# Altium schematic symbol library Capacitores_SCHLIB.SchLib: 63 symbols (part 1 of 2)
Pins are listed as number, name and electrical type; pins without a type are passive.

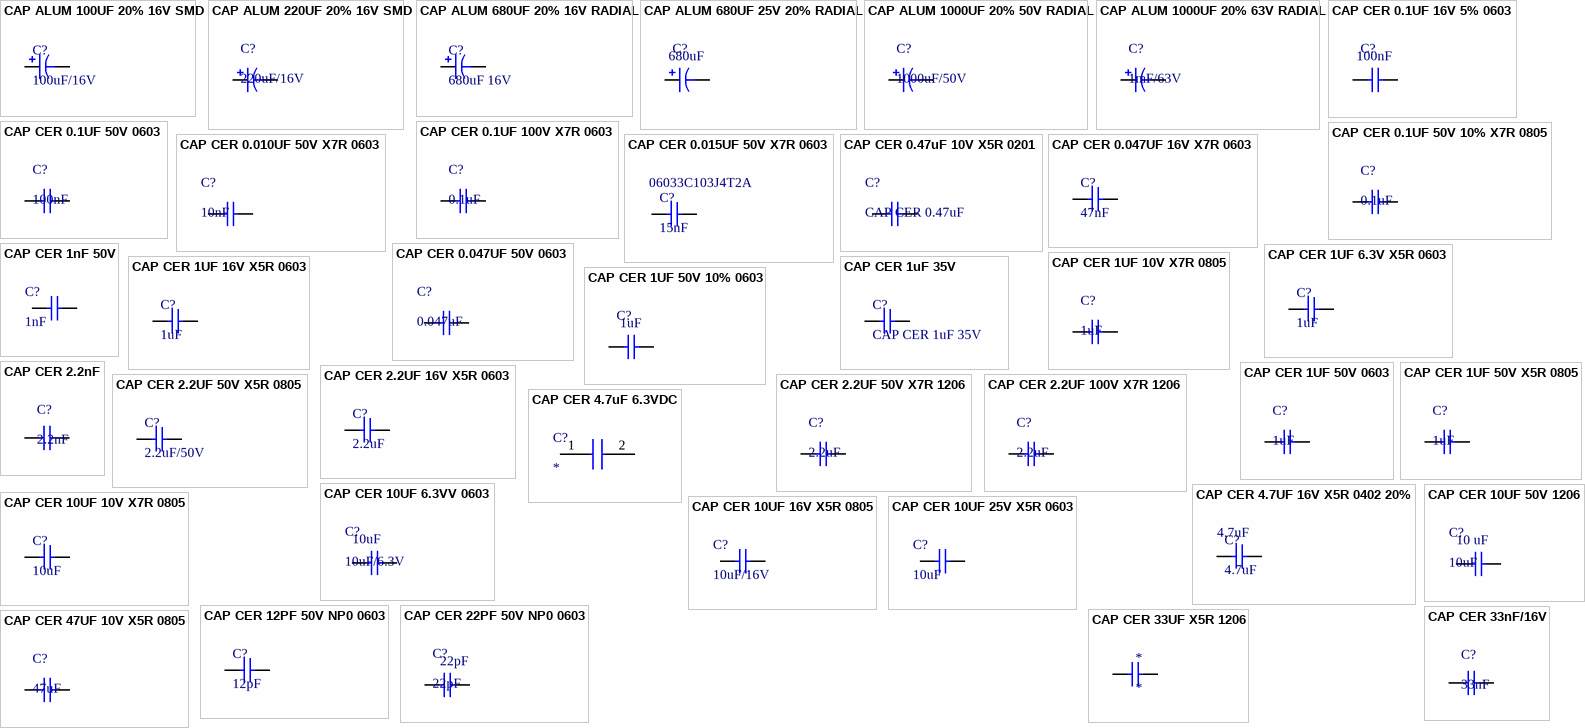
[diagram p0: symbols CAP ALUM 100UF 20% 16V SMD to CAP CER 47UF 10V X5R 0805]

## CAP ALUM 100UF 20% 16V SMD
designator C?, comment 100uF/16V
CAP ALUM 100UF 20% 16V SMD; Manufacturer: United Chemi-Con; Manufacturer Part Number: EMHJ160ADA101MHA0G; Capacitance: 100µF; ESR (Equivalent Series Resistance): 150 mOhm; Lifetime @ Temp.: 2000 Hrs @ 125°C; Ripple Current: 350mA; Surface Mount Land Size: 0.327" L x 0.327" W (8.30mm x 8.30mm); Supplier 1: Digi-Key; RoHS: RoHS Compliant; Category: Capacitors; Stock 1: 1030; Pricing 1: 1=1.04, 10=0.818, 25=0.7504, 50=0.7094, 100=0.6139, 250=0.54568, 500=0.46382 (USD); Packaging: Cut Tape (CT); Part Status: Active; Tolerance: ±20%; Voltage Rating: 16V; Operating Temperature: -40°C ~ 125°C; Polarization: -; Applications: General Purpose; Impedance: -; Lead Spacing: -; Size / Dimension: 0.315" Dia (8.00mm); Height - Seated (Max): 0.406" (10.30mm); Mounting Type: Surface Mount; Package / Case: Radial, Can - SMD; ComponentLink1URL: http://www.chemi-con.co.jp/cgi-bin/CAT_DB/SEARCH/cat_db_al.cgi?e=e&j=p&pdfname=mhj; ComponentLink1Description: http://www.chemi-con.co.jp/cgi-bin/CAT_DB/SEARCH/cat_db_al.cgi?e=e&j=p&pdfname=mhj; Supplier Part Number 1: 565-3635-1-ND
footprint CAP_8x10
pins: 1, 2

## CAP ALUM 220UF 20% 16V SMD
designator C?, comment 220uF/16V
CAP ALUM 220UF 20% 16V SMD; Manufacturer: Nichicon; Manufacturer Part Number: UUR1C221MNL1GS; Capacitance: 220µF; Lifetime @ Temp.: 2000 Hrs @ 85°C; Ripple Current: 215mA; Surface Mount Land Size: 0.327" L x 0.327" W (8.30mm x 8.30mm); Supplier 1: Digi-Key; RoHS: RoHS Compliant; Category: Capacitors; Stock 1: 6008; Pricing 1: 1=0.47, 10=0.329, 25=0.2696, 50=0.23, 100=0.1972, 250=0.16436 (USD); Packaging: Cut Tape (CT); Part Status: Active; Tolerance: ±20%; Voltage Rating: 16V; ESR (Equivalent Series Resistance): -; Operating Temperature: -40°C ~ 85°C; Polarization: -; Applications: General Purpose; Impedance: -; Lead Spacing: -; Size / Dimension: 0.315" Dia (8.00mm); Height - Seated (Max): 0.413" (10.50mm); Mounting Type: Surface Mount; Package / Case: Radial, Can - SMD; ComponentLink1URL: http://nichicon-us.com/english/products/pdfs/e-uur.pdf; ComponentLink1Description: http://nichicon-us.com/english/products/pdfs/e-uur.pdf; Supplier Part Number 1: 493-6215-1-ND
footprint CAP 8x10 (Aluminum Electrolytic Capacitor, Body 8,30x8,30x10,80mm, IPC Medium Density)
pins: 1, 2

## CAP ALUM 680UF 20% 16V RADIAL
designator C?, comment 680uF 16V
CAP ALUM 680UF 20% 16V RADIAL; Manufacturer: United Chemi-Con; Manufacturer Part Number: EKZN160ELL681MH15D; Capacitance: 680µF; Lifetime @ Temp.: 10000 Hrs @ 105°C; Ripple Current: 1.6A; Impedance: 59 mOhm; Supplier 1: Digi-Key; RoHS: RoHS Compliant; Category: Capacitors; Stock 1: 0; Pricing 1: 1000=0.13996 (USD); Packaging: Bulk; Part Status: Active; Tolerance: ±20%; Voltage Rating: 16V; ESR (Equivalent Series Resistance): -; Operating Temperature: -; Polarization: -; Applications: General Purpose; Lead Spacing: 0.138" (3.50mm); Size / Dimension: 0.315" Dia (8.00mm); Height - Seated (Max): 0.650" (16.50mm); Surface Mount Land Size: -; Mounting Type: Through Hole; Package / Case: Radial, Can; ComponentLink1URL: http://www.chemi-con.co.jp/cgi-bin/CAT_DB/SEARCH/cat_db_al.cgi?e=e&j=p&pdfname=kzn; ComponentLink1Description: http://www.chemi-con.co.jp/cgi-bin/CAT_DB/SEARCH/cat_db_al.cgi?e=e&j=p&pdfname=kzn; Supplier Part Number 1: EKZN160ELL681MH15D-ND
footprint RADIAL 8X15MM
pins: 1, 2

## CAP ALUM 680UF 25V 20% RADIAL
designator C?, comment value 680uF  (hidden comment: UHD1E681MPD)
Aluminum Electrolytic Capacitors - Leaded 25volts 680uF 10x20 20% 5LS; Manufacturer: Nichicon; Voltage Rating DC: 25 V; Leakage Current: 170 uA; Case Diameter: 10 mm; Case Length: 20 mm; Dissipation Factor DF: 0.14; Load Life: 4000 h; Ripple Current: 1820 mA; Supplier 1: Mouser; Manufacturer Part Number: UHD1E681MPD; RoHS: RoHS Compliant; Category: Aluminum Electrolytic Capacitors - Leaded; Stock 1: 0; Pricing 1: 1=0.817, 10=0.595, 100=0.319, 500=0.279, 5000=0.212 (AUD); Capacitance: 680 uF; Dimensions: 10 mm Dia. x 20 mm L; Packaging: Bulk; Product: Low Impedance Electrolytic Capacitors; Series: HD; Termination Style: Radial; Tolerance: 20 %; Brand: Nichicon; Lead Spacing: 5 mm; Lead Style: Straight; Maximum Operating Temperature: + 105 C; Product Category: Low Impedance Aluminum Electrolytic Capacitors; Standard Pack Qty: 200; RoHS - Mouser: Y; Minimum Order Quantity: 1; Reeling: False; ComponentLink1URL: http://www.mouser.com/ds/2/293/e-hd-22785.pdf; ComponentLink1Description: http://www.mouser.com/ds/2/293/e-hd-22785.pdf; Supplier Part Number 1: 647-UHD1E681MPD
footprint Radial 13x20mm
footprint Radial 13x20mm (mirror)
pins: 1, 2

## CAP ALUM 1000UF 20% 50V RADIAL
designator C?, comment 1000uF/50V
CAP ALUM 1000UF 20% 50V RADIAL; Manufacturer: Panasonic Electronic Components; Manufacturer Part Number: EEU-FC1H102; Capacitance: 1000µF; Lifetime @ Temp.: 5000 Hrs @ 105°C; Polarization: Polar; Ripple Current: 1.676A @ 120Hz; Impedance: 34 mOhm; Supplier 1: Digi-Key; RoHS: RoHS Compliant; Category: Capacitors; Stock 1: 76023; Pricing 1: 1=1.49, 10=1.172, 25=1.0748, 50=1.016, 100=0.8793, 250=0.7816, 500=0.66436, 1000=0.5862, 2500=0.54712 (USD); Packaging: Bulk; Tolerance: ±20%; Voltage Rating: 50V; ESR (Equivalent Series Resistance): -; Operating Temperature: -55°C ~ 105°C; Applications: Automotive; Lead Spacing: 0.295" (7.50mm); Size / Dimension: 0.630" Dia (16.00mm); Height - Seated (Max): 0.984" (25.00mm); Surface Mount Land Size: -; Mounting Type: Through Hole; Package / Case: Radial, Can; ComponentLink1URL: http://industrial.panasonic.com/www-cgi/jvcr13pz.cgi?E+PZ+3+ABA0022+EEUFC1H102+7+WW; ComponentLink1Description: http://industrial.panasonic.com/www-cgi/jvcr13pz.cgi?E+PZ+3+ABA0022+EEUFC1H102+7+WW; Supplier Part Number 1: P10333-ND
footprint CAP_RAD_16x25
footprint CAP_RAD_16x25_RIGHT1 (CAP_RAD_16x25__RIGHT1)
footprint CAP_RAD_16x25_RIGHT2 (CAP_RAD_16x25__RIGHT2)
pins: 1, 2

## CAP ALUM 1000UF 20% 63V RADIAL
designator C?, comment 1mF/63V
CAP ALUM 1000UF 20% 63V RADIAL; Manufacturer: Nichicon; Manufacturer Part Number: UVR1J102MHD; Capacitance: 1000µF; Lifetime @ Temp.: 2000 Hrs @ 85°C; Ripple Current: 1.3A; Supplier 1: Digi-Key; RoHS: RoHS Compliant; Category: Capacitors; Stock 1: 13776; Pricing 1: 1=0.96, 10=0.759, 25=0.6956, 50=0.6576, 100=0.569, 250=0.5058, 500=0.42994, 1000=0.37935, 2500=0.35406 (USD); Packaging: Bulk; Part Status: Active; Tolerance: ±20%; Voltage Rating: 63V; ESR (Equivalent Series Resistance): -; Operating Temperature: -40°C ~ 85°C; Polarization: -; Applications: General Purpose; Impedance: -; Lead Spacing: 0.295" (7.50mm); Size / Dimension: 0.630" Dia (16.00mm); Height - Seated (Max): 1.063" (27.00mm); Surface Mount Land Size: -; Mounting Type: Through Hole; Package / Case: Radial, Can; ComponentLink1URL: http://nichicon-us.com/english/products/pdfs/e-uvr.pdf; ComponentLink1Description: http://nichicon-us.com/english/products/pdfs/e-uvr.pdf; Supplier Part Number 1: 493-1129-ND
footprint CAP RAD 16x25
footprint CAP RAD 16x25 RIGHT1
footprint CAP RAD 16x25 RIGHT2
pins: 1, 2

## CAP CER 0.1UF 16V 5% 0603
designator C?, comment value 100nF  (hidden comment: VJ0603Y104JXJPW1BC)
Multilayer Ceramic Capacitors MLCC - SMD/SMT 0603 0.1uF 16volts X7R 5%; Manufacturer: Vishay / Vitramon; Type: Ultra Small Commodity MLCCs; Voltage Rating DC: 16 V; Case Height: 0.95 mm; Case Length: 1.6 mm; Case Width: 0.8 mm; Dissipation Factor DF: 3.5; Temperature Coefficient / Code: +/- 15 %; Supplier 1: Mouser; Manufacturer Part Number: VJ0603Y104JXJPW1BC; RoHS: RoHS Compliant; Category: Multilayer Ceramic Capacitors MLCC - SMD/SMT; Stock 1: 111624; Pricing 1: 1=0.089, 50=0.036, 100=0.028, 500=0.025, 1000=0.022, 15000=0.018, 75000=0.016 (AUD); Capacitance: 0.1 uF; Operating Temperature Range: - 55 C to + 125 C; Package / Case: 0603 (1608 metric); Packaging: Reel; Product: General Type MLCCs; Series: VJ W1BC; Termination Style: SMD/SMT; Tolerance: 5 %; Voltage Rating AC: -; Brand: Vishay / Vitramon; Case Code - in: 0603; Case Code - mm: 1608; Dielectric: X7R; Maximum Operating Temperature: + 125 C; Minimum Operating Temperature: - 55 C; Product Category: Ceramic Chip Capacitors; Standard Pack Qty: 15000; RoHS - Mouser: Y; Minimum Order Quantity: 1; Reeling: True; ComponentLink1URL: http://www.mouser.com/ds/2/427/vjw1bcbascomseries-223529.pdf; ComponentLink1Description: http://www.mouser.com/ds/2/427/vjw1bcbascomseries-223529.pdf; Supplier Part Number 1: 77-VJ0603Y104JXJPBC
footprint Capacitor-0603 (Chip Capacitor; Body 1.6 x 0.8 mm (LxW typ))
pins: 1, 2

## CAP CER 0.1UF 50V 10% X7R 0805
designator C?, comment 0.1uF
CAP CER 0.1UF 50V 10% X7R 0805; Manufacturer: Kyocera / AVX; Manufacturer Part Number: 08055C104KAT2A; Capacitance: 100 nF; Supplier 1: Digikey; Stock 1: 4100743; Pricing 1: 1=0.1, 10=0.036, 25=0.026, 50=0.0194, 100=0.0158, 250=0.0132, 500=0.0113, 1000=0.0089 (USD); Case Size/Dimension: 0805; Dielectric: X7R; Tolerance (%): ±10 %; Rated Voltage: 50 V; ComponentLink1URL: https://datasheet.ciiva.com/150/cx7r-150257.pdf; ComponentLink1Description: https://datasheet.ciiva.com/150/cx7r-150257.pdf; ComponentLink2URL: https://datasheet.ciiva.com/150/cx7r-150258.pdf; ComponentLink2Description: https://datasheet.ciiva.com/150/cx7r-150258.pdf; ComponentLink3URL: https://datasheet.ciiva.com/19475/2009691-19475858.pdf; ComponentLink3Description: https://datasheet.ciiva.com/19475/2009691-19475858.pdf; ComponentLink4URL: https://datasheet.ciiva.com/150/cx7r-150259.pdf; ComponentLink4Description: https://datasheet.ciiva.com/150/cx7r-150259.pdf; ComponentLink5URL: https://datasheet.ciiva.com/11786/0900766b802d4698-11786116.pdf; ComponentLink5Description: https://datasheet.ciiva.com/11786/0900766b802d4698-11786116.pdf; ComponentLink6URL: https://datasheet.ciiva.com/16199/cx7r-16199014.pdf; ComponentLink6Description: https://datasheet.ciiva.com/16199/cx7r-16199014.pdf; ComponentLink7URL: https://datasheet.ciiva.com/16536/cx7r-16536873.pdf; ComponentLink7Description: https://datasheet.ciiva.com/16536/cx7r-16536873.pdf; ComponentLink8URL: https://datasheet.ciiva.com/16536/cx7r-16536875.pdf; ComponentLink8Description: https://datasheet.ciiva.com/16536/cx7r-16536875.pdf; ComponentLink9URL: https://datasheet.ciiva.com/25901/cx7r-25901179.pdf; ComponentLink9Description: https://datasheet.ciiva.com/25901/cx7r-25901179.pdf; ComponentLink10URL: https://datasheet.ciiva.com/11504/cx7r-11504044.pdf; ComponentLink10Description: https://datasheet.ciiva.com/11504/cx7r-11504044.pdf; ComponentLink11URL: https://datasheet.ciiva.com/2988/cx7r-2988014.pdf; ComponentLink11Description: https://datasheet.ciiva.com/2988/cx7r-2988014.pdf; ComponentLink12URL: https://datasheet.ciiva.com/5416/cx7r-5416959.pdf; ComponentLink12Description: https://datasheet.ciiva.com/5416/cx7r-5416959.pdf; ComponentLink13URL: https://datasheet.ciiva.com/7812/cx7r-7812079.pdf; ComponentLink13Description: https://datasheet.ciiva.com/7812/cx7r-7812079.pdf; Supplier Part Number 1: 478-1395-1-ND
footprint CAP 0805 M (Chip Capacitor, 2-Leads, Body 2,00x1,25mm, IPC Low Density)
pins: 1, 2

## CAP CER 0.1UF 50V 0603
designator C?, comment 100nF
Multilayer Ceramic Capacitors MLCC - SMD/SMT 100nF 50Volts X7R 0603 STD; Manufacturer: Murata Electronics North America; Manufacturer Part Number: GRM188R71H104KA93D; Capacitance: 0.10µF; Tolerance: ±10%; Voltage - Rated: 50V; Supplier 1: Digi-Key; RoHS: RoHS Compliant; Category: Capacitors; Stock 1: 6082661; Pricing 1: 1=0.1, 10=0.04, 50=0.0214, 100=0.0182, 250=0.01484, 500=0.0127, 1000=0.0099 (USD); Packaging: Cut Tape (CT); Temperature Coefficient: X7R; Mounting Type: Surface Mount, MLCC; Operating Temperature: -55°C ~ 125°C; Applications: General Purpose; Ratings: -; Package / Case: 0603 (1608 Metric); Size / Dimension: 0.063" L x 0.031" W (1.60mm x 0.80mm); Height - Seated (Max): -; Thickness (Max): 0.035" (0.90mm); Lead Spacing: -; Features: -; Lead Style: -; ComponentLink1URL: http://www.murata.com/~/media/webrenewal/support/library/catalog/products/capacitor/mlcc/c02e.pdf; ComponentLink1Description: http://www.murata.com/~/media/webrenewal/support/library/catalog/products/capacitor/mlcc/c02e.pdf; Supplier Part Number 1: 100nF
footprint Capacitor-0603 (Chip Capacitor; Body 1.6 x 0.8 mm (LxW typ))
footprint SMD-0402C
pins: 1, 2

## CAP CER 0.1UF 100V X7R 0603
designator C?, comment 0.1uF
CAP CER 0.1UF 100V X7R 0603; Manufacturer: Murata Electronics North America; Manufacturer Part Number: GRJ188R72A104KE11D; Capacitance: 0.10µF; Tolerance: ±10%; Supplier 1: Digi-Key; RoHS: RoHS Compliant; Category: Capacitors; Stock 1: 18811; Pricing 1: 1=0.2, 10=0.135, 50=0.082, 100=0.0689, 250=0.05576, 500=0.0492, 1000=0.04182 (USD); Packaging: Cut Tape (CT); Part Status: Active; Voltage - Rated: 100V; Temperature Coefficient: X7R; Operating Temperature: -55°C ~ 125°C; Features: Soft Termination; Ratings: -; Applications: Boardflex Sensitive; Failure Rate: *; Mounting Type: Surface Mount, MLCC; Package / Case: 0603 (1608 Metric); Size / Dimension: 0.063" L x 0.031" W (1.60mm x 0.80mm); Height - Seated (Max): -; Thickness (Max): 0.035" (0.90mm); Lead Spacing: -; Lead Style: -; ComponentLink1URL: http://www.murata.com/~/media/webrenewal/support/library/catalog/products/capacitor/mlcc/c02e.pdf; ComponentLink1Description: http://www.murata.com/~/media/webrenewal/support/library/catalog/products/capacitor/mlcc/c02e.pdf; Supplier Part Number 1: 490-10901-1-ND
footprint CAP 0603 N (Chip Capacitor, 2-Leads, Body 1,60x0,80mm, IPC Medium Density)
footprint SMD-0402C
pins: 1, 2

## CAP CER 0.010UF 50V X7R 0603
designator C?, comment 10nF
CAP CER 0.010UF 50V X7R 0603; Manufacturer: AVX; Manufacturer Part Number: 06035F103K4T2A; Unit: pcs; SuppliedAmount: 0; MinAmount: 20000; Multiples: 4000; Capacitor type: ceramic; Dielectric: X8R; Tolerance: ±10%; Case - inch: 0603; Case - mm: 1608; Capacitor application: automobile electronics; Conform to the norm: AEC-Q200; Supplier 1: TME; Category: 0603 MLCC SMD Capacitors; Stock 1: 0; Pricing 1: 20000=0.01042 (USD); Weight: 0.035; Price Type: NET; Capacitance: 10nF; Operating voltage: 50V; Mounting: SMD; Operating temperature: -55...150°C; ComponentLink1URL: http://www.tme.eu/en/details/06035f103k4t2a/0603-mlcc-smd-capacitors/avx/; ComponentLink1Description: http://www.tme.eu/en/details/06035f103k4t2a/0603-mlcc-smd-capacitors/avx/
footprint Capacitor-0603 (Chip Capacitor; Body 1.6 x 0.8 mm (LxW typ))
footprint SMD-0402C
pins: 1, 2

## CAP CER 0.015UF 50V X7R 0603
designator C?, comment 15nF  Supplier Part Number 2: 06033C103J4T2A
CAP CER 0.015UF 50V X7R 0603; Manufacturer: Murata Electronics North America; Manufacturer Part Number: GRM188R71H153KA01D; Capacitance: 0.015µF; Tolerance: ±10%; Unit: pcs; SuppliedAmount: 0; MinAmount: 4000; Capacitor type: ceramic; Operating voltage: 25V; Case - inch: 0603; Case - mm: 1608; Capacitor application: automobile electronics; Conform to the norm: AEC-Q200; Supplier 1: Digi-Key; RoHS: RoHS Compliant; Category: Capacitors; Stock 1: 75609; Pricing 1: 1=0.1, 10=0.043, 50=0.0234, 100=0.0198, 250=0.0162, 500=0.01386, 1000=0.0108 (USD); Packaging: Cut Tape (CT); Part Status: Active; Voltage - Rated: 50V; Temperature Coefficient: X7R; Operating Temperature: -55°C ~ 125°C; Features: -; Ratings: -; Applications: General Purpose; Failure Rate: *; Mounting Type: Surface Mount, MLCC; Package / Case: 0603 (1608 Metric); Size / Dimension: 0.063" L x 0.031" W (1.60mm x 0.80mm); Height - Seated (Max): -; Thickness (Max): 0.035" (0.90mm); Lead Spacing: -; Lead Style: -; ComponentLink1URL: http://www.murata.com/~/media/webrenewal/support/library/catalog/products/capacitor/mlcc/c02e.pdf; ComponentLink1Description: http://www.murata.com/~/media/webrenewal/support/library/catalog/products/capacitor/mlcc/c02e.pdf; Supplier Part Number 1: 490-1514-1-ND; Supplier 2: TME; Stock 2: 0; Pricing 2: 4000=0.00485 (USD); Weight: 0.035; Multiples: 4000; Price Type: NET; Dielectric: X7R; Mounting: SMD; ComponentLink2URL: http://www.tme.eu/en/details/06033c103j4t2a/0603-mlcc-smd-capacitors/avx/; ComponentLink2Description: http://www.tme.eu/en/details/06033c103j4t2a/0603-mlcc-smd-capacitors/avx/
footprint Capacitor-0603 (Chip Capacitor; Body 1.6 x 0.8 mm (LxW typ))
footprint SMD-0402C
pins: 1, 2

## CAP CER 0.47uF 10V X5R 0201
designator C?, comment CAP CER 0.47uF
C0603X5R1A474M030BC; Manufacturer: TDK Corporation; Capacitance: 0.47µF; Tolerance: ±20%; Voltage - Rated: 10V; Temperature Coefficient: X5R; Supplier 1: Digi-Key; Manufacturer Part Number: C0603X5R1A474M030BC; RoHS: RoHS Compliant; Category: Capacitors; Stock 1: 630111; Pricing 1: 1=0.22, 10=0.149, 100=0.0756, 250=0.0612, 500=0.054, 1000=0.0459, 5000=0.0387 (USD); Packaging: Cut Tape (CT); Part Status: Active; Operating Temperature: -55°C ~ 85°C; Features: Low ESL; Ratings: -; Applications: General Purpose; Failure Rate: -; Mounting Type: Surface Mount, MLCC; Package / Case: 0201 (0603 Metric); Size / Dimension: 0.024" L x 0.012" W (0.60mm x 0.30mm); Height - Seated (Max): -; Thickness (Max): 0.013" (0.33mm); Lead Spacing: -; Lead Style: -; ComponentLink1URL: https://product.tdk.com/info/en/catalog/datasheets/mlcc_commercial_general_en.pdf; ComponentLink1Description: https://product.tdk.com/info/en/catalog/datasheets/mlcc_commercial_general_en.pdf; Supplier Part Number 1: 445-13666-1-ND
footprint Capacitor-0603 (Chip Capacitor; Body 1.6 x 0.8 mm (LxW typ))
footprint SMD-0402C
pins: 1, 2

## CAP CER 0.047UF 16V X7R 0603
designator C?, comment 47nF
CAP CER 0.047UF 16V X7R 0603; Manufacturer: Wurth Electronics Inc; Manufacturer Part Number: 885012206044; Capacitance: 0.047µF; Tolerance: ±10%; Supplier 1: Digi-Key; RoHS: RoHS Compliant; Category: Capacitors; Stock 1: 3069; Pricing 1: 1=0.1, 50=0.0468, 100=0.0367, 250=0.0324, 500=0.02952, 1000=0.02736 (USD); Packaging: Cut Tape (CT); Voltage - Rated: 16V; Temperature Coefficient: X7R; Mounting Type: Surface Mount, MLCC; Operating Temperature: -55°C ~ 125°C; Applications: General Purpose; Ratings: -; Package / Case: 0603 (1608 Metric); Size / Dimension: 0.063" L x 0.031" W (1.60mm x 0.80mm); Height - Seated (Max): -; Thickness (Max): 0.034" (0.87mm); Lead Spacing: -; Features: -; Lead Style: -; ComponentLink1URL: http://katalog.we-online.de/pbs/datasheet/885012206044.pdf; ComponentLink1Description: http://katalog.we-online.de/pbs/datasheet/885012206044.pdf; Supplier Part Number 1: 732-7963-1-ND
footprint CAP 0603 N (Chip, Body 1.6x0.8mm, IPC Medium Density)
pins: 1, 2

## CAP CER 0.047UF 50V 0603
designator C?, comment 0.047uF
Multilayer Ceramic Capacitors MLCC - SMD/SMT 0603 0.047uF 50volts X7R 20% Soft Term; Manufacturer: TDK; Manufacturer Part Number: C1608X7R1H473M080AE; Type: Commercial MLCC; Voltage Rating DC: 50 VDC; Capacitance - nF: 47 nF; Capacitance - pF: 47000 pF; Class: Class 2; Product Status: New Product; Supplier 1: Mouser; RoHS: RoHS Compliant; Category: Multilayer Ceramic Capacitors MLCC - SMD/SMT; Stock 1: 6698; Pricing 1: 1=0.180, 10=0.124, 100=0.051, 500=0.045, 1000=0.038, 4000=0.030, 8000=0.027, 24000=0.025, 48000=0.022 (USD); Capacitance: 0.047 uF; Height: 0.8 mm; Length: 1.6 mm; Package / Case: 0603 (1608 metric); Packaging: Reel; Product: General Type MLCCs; Series: C; Termination Style: SMD/SMT; Tolerance: 20 %; Width: 0.8 mm; Brand: TDK; Case Code - in: 0603; Case Code - mm: 1608; Dielectric: X7R; Maximum Operating Temperature: + 125 C; Minimum Operating Temperature: - 55 C; Standard Pack Qty: 4000; Termination: Flexible (Soft); RoHS - Mouser: Y; Minimum Order Quantity: 1; Reeling: True; ComponentLink1URL: http://www.mouser.com/ds/2/400/lcc_commercial_soft_en-775842.pdf; ComponentLink1Description: http://www.mouser.com/ds/2/400/lcc_commercial_soft_en-775842.pdf; Supplier Part Number 1: 0.047uF
footprint Capacitor-0603 (Chip Capacitor; Body 1.6 x 0.8 mm (LxW typ))
pins: 1, 2

## CAP CER 1nF 50V
designator C?, comment 1nF
CAP CER 1000PF 50V C0G RADIAL; Manufacturer: Vishay BC Components; Manufacturer Part Number: K102J15C0GF53H5H; Tolerance: ±5%; Temperature Coefficient: C0G, NP0; Supplier 1: Digi-Key; RoHS: RoHS Compliant; Category: Capacitors; Stock 1: 854; Pricing 1: 1=0.41, 10=0.285, 25=0.2336, 50=0.1996, 100=0.171, 250=0.14252, 500=0.12826, 1000=0.1083, 5000=0.0969 (USD); Packaging: Bulk; Part Status: Active; Capacitance: 1000pF; Voltage - Rated: 50V; Operating Temperature: -55°C ~ 175°C; Features: -; Ratings: AEC-Q200; Applications: Automotive; Failure Rate: -; Mounting Type: Through Hole; Package / Case: Radial; Size / Dimension: 0.157" L x 0.102" W (4.00mm x 2.60mm); Height - Seated (Max): 0.260" (6.60mm); Thickness (Max): -; Lead Spacing: 0.197" (5.00mm); Lead Style: Formed Leads; ComponentLink1URL: http://media.digikey.com/pdf/Data%20Sheets/BC%20Components%20PDFs/K...H_HOTcap_Series_ds.pdf; ComponentLink1Description: http://media.digikey.com/pdf/Data%20Sheets/BC%20Components%20PDFs/K...H_HOTcap_Series_ds.pdf; Supplier Part Number 1: BC3192-ND
footprint CAP CER 1NF
pins: 1, 2

## CAP CER 1UF 6.3V X5R 0603
designator C?, comment 1uF
CAP CER 1UF 6.3V X5R 0603; Manufacturer: Wurth Electronics Inc; Manufacturer Part Number: 885012106003; Capacitance: 1µF; Tolerance: ±20%; Supplier 1: Digi-Key; RoHS: RoHS Compliant; Category: Capacitors; Stock 1: 4000; Pricing 1: 1=0.1, 50=0.0702, 100=0.0551, 250=0.0486, 500=0.04428, 1000=0.04104 (USD); Packaging: Digi-Reel®; Voltage - Rated: 6.3V; Temperature Coefficient: X5R; Mounting Type: Surface Mount, MLCC; Operating Temperature: -55°C ~ 85°C; Applications: General Purpose; Ratings: -; Package / Case: 0603 (1608 Metric); Size / Dimension: 0.063" L x 0.031" W (1.60mm x 0.80mm); Height - Seated (Max): -; Thickness (Max): 0.037" (0.95mm); Lead Spacing: -; Features: -; Lead Style: -; ComponentLink1URL: http://katalog.we-online.de/pbs/datasheet/885012106003.pdf; ComponentLink1Description: http://katalog.we-online.de/pbs/datasheet/885012106003.pdf; Supplier Part Number 1: 732-7900-6-ND
footprint CAP 0603 N (Chip, Body 1.6x0.8mm, IPC Medium Density)
footprint SMD-0402C
pins: 1, 2

## CAP CER 1UF 10V X7R 0805
designator C?, comment 1uF
CAP CER 1UF 10V X7R 0805; Manufacturer: Kyocera / AVX; Manufacturer Part Number: 0805ZC105KAT2A; Capacitance: 1 µF; Tolerance (%): ±10 %; Supplier 1: Digikey; Stock 1: 767075; Pricing 1: 1=0.12, 10=0.083, 25=0.0604, 50=0.047, 100=0.039, 250=0.0322, 500=0.0273, 1000=0.0226 (USD); Case Size/Dimension: 0805; Dielectric: X7R; Rated Voltage: 10 V; ComponentLink1URL: https://datasheet.ciiva.com/2988/cx7r-2988071.pdf; ComponentLink1Description: https://datasheet.ciiva.com/2988/cx7r-2988071.pdf; ComponentLink2URL: https://datasheet.ciiva.com/2988/cx7r-2988072.pdf; ComponentLink2Description: https://datasheet.ciiva.com/2988/cx7r-2988072.pdf; ComponentLink3URL: https://datasheet.ciiva.com/14601/70001075-14601048.pdf; ComponentLink3Description: https://datasheet.ciiva.com/14601/70001075-14601048.pdf; ComponentLink4URL: https://datasheet.ciiva.com/14594/70001075-14594329.pdf; ComponentLink4Description: https://datasheet.ciiva.com/14594/70001075-14594329.pdf; ComponentLink5URL: https://datasheet.ciiva.com/25901/cx7r-25901193.pdf; ComponentLink5Description: https://datasheet.ciiva.com/25901/cx7r-25901193.pdf; ComponentLink6URL: https://datasheet.ciiva.com/15165/getdatasheetpartid-71567-15165451.pdf; ComponentLink6Description: https://datasheet.ciiva.com/15165/getdatasheetpartid-71567-15165451.pdf; ComponentLink7URL: https://datasheet.ciiva.com/151/cx7r-151916.pdf; ComponentLink7Description: https://datasheet.ciiva.com/151/cx7r-151916.pdf; ComponentLink8URL: https://datasheet.ciiva.com/151/cx7r-151917.pdf; ComponentLink8Description: https://datasheet.ciiva.com/151/cx7r-151917.pdf; ComponentLink9URL: https://datasheet.ciiva.com/151/cx7r-151918.pdf; ComponentLink9Description: https://datasheet.ciiva.com/151/cx7r-151918.pdf; ComponentLink10URL: https://datasheet.ciiva.com/11787/0900766b80ed4be2-11787102.pdf; ComponentLink10Description: https://datasheet.ciiva.com/11787/0900766b80ed4be2-11787102.pdf; ComponentLink11URL: https://datasheet.ciiva.com/7812/84526-7812223.pdf; ComponentLink11Description: https://datasheet.ciiva.com/7812/84526-7812223.pdf; ComponentLink12URL: https://datasheet.ciiva.com/19475/2011248-19475855.pdf; ComponentLink12Description: https://datasheet.ciiva.com/19475/2011248-19475855.pdf; Supplier Part Number 1: 478-1405-6-ND
footprint CAP 0805 M (Chip Capacitor, 2-Leads, Body 2,00x1,25mm, IPC Low Density)
footprint SMD-0402C
pins: 1, 2

## CAP CER 1UF 16V X5R 0603
designator C?, comment 1uF
CAP CER 1UF 16V X5R 0603; Manufacturer: Murata Electronics North America; Manufacturer Part Number: GRM188R61C105KA93D; Capacitance: 1µF; Tolerance: ±10%; Supplier 1: Digi-Key; RoHS: RoHS Compliant; Category: Capacitors; Stock 1: 899102; Pricing 1: 1=0.1, 10=0.034, 50=0.0182, 100=0.0154, 250=0.0126, 500=0.01078, 1000=0.0084 (USD); Packaging: Cut Tape (CT); Part Status: Active; Voltage - Rated: 16V; Temperature Coefficient: X5R; Operating Temperature: -55°C ~ 85°C; Features: -; Ratings: -; Applications: General Purpose; Failure Rate: *; Mounting Type: Surface Mount, MLCC; Package / Case: 0603 (1608 Metric); Size / Dimension: 0.063" L x 0.031" W (1.60mm x 0.80mm); Height - Seated (Max): -; Thickness (Max): 0.035" (0.90mm); Lead Spacing: -; Lead Style: -; ComponentLink1URL: http://www.murata.com/~/media/webrenewal/support/library/catalog/products/capacitor/mlcc/c02e.pdf; ComponentLink1Description: http://www.murata.com/~/media/webrenewal/support/library/catalog/products/capacitor/mlcc/c02e.pdf; Supplier Part Number 1: 490-1536-1-ND
footprint CAP 0603 N (Chip, Body 1.6x0.8mm, IPC Medium Density)
footprint SMD-0402C
pins: 1, 2

## CAP CER 1uF 35V
designator C?
CAP CER 1UF 35V X7R 0805; Manufacturer: Murata Electronics North America; Manufacturer Part Number: GRM219R7YA105KA12D; Capacitance: 1µF; Tolerance: ±10%; Supplier 1: Digi-Key; RoHS: RoHS Compliant; Category: Capacitors; Stock 1: 7995; Pricing 1: 1=0.24, 10=0.162, 25=0.1176, 50=0.098, 100=0.0823, 250=0.06664, 500=0.0588, 1000=0.04998 (USD); Packaging: Cut Tape (CT); Part Status: Active; Voltage - Rated: 35V; Temperature Coefficient: X7R; Operating Temperature: -55°C ~ 125°C; Features: Derating Recommended; Ratings: -; Applications: General Purpose; Failure Rate: *; Mounting Type: Surface Mount, MLCC; Package / Case: 0805 (2012 Metric); Size / Dimension: 0.079" L x 0.049" W (2.00mm x 1.25mm); Height - Seated (Max): -; Thickness (Max): 0.037" (0.95mm); Lead Spacing: -; Lead Style: -; ComponentLink1URL: http://www.murata.com/~/media/webrenewal/support/library/catalog/products/capacitor/mlcc/c02e.pdf; ComponentLink1Description: http://www.murata.com/~/media/webrenewal/support/library/catalog/products/capacitor/mlcc/c02e.pdf; Supplier Part Number 1: 490-10494-1-ND
footprint CAP 0805 N (Chip, Body 2.0x1.3mm, IPC Medium Density)
footprint SMD-0402C
pins: 1, 2

## CAP CER 1UF 50V 10% 0603
designator C?, comment value 1uF  (hidden comment: UMK107BJ105KA-T)
Multilayer Ceramic Capacitors MLCC - SMD/SMT Midhigh 0603 X5R 50V 1uF 10%; Manufacturer: Taiyo Yuden; Type: Industrial/Automotive and Safety; Case Height: 0.8 mm; Case Length: 1.6 mm; Temperature Coefficient / Code: +/- 15 %; Supplier 1: Mouser; Manufacturer Part Number: UMK107BJ105KA-T; RoHS: RoHS Compliant; Category: Multilayer Ceramic Capacitors MLCC - SMD/SMT; Stock 1: 211765; Pricing 1: 1=0.238, 10=0.095, 100=0.065, 500=0.055, 1000=0.046, 4000=0.036, 8000=0.033, 12000=0.031, 24000=0.030 (AUD); Capacitance: 1 uF; Operating Temperature Range: - 55 C to + 125 C; Package / Case: 0603 (1608 metric); Packaging: Reel; Product: General Type MLCCs; Series: M; Termination Style: SMD/SMT; Tolerance: 10 %; Voltage Rating DC: 50 V; Brand: Taiyo Yuden; Case Code - in: 0603; Case Code - mm: 1608; Case Width: 0.8 mm; Dielectric: X5R; Maximum Operating Temperature: + 85 C; Minimum Operating Temperature: - 55 C; Standard Pack Qty: 4000; RoHS - Mouser: Y; Minimum Order Quantity: 1; Reeling: True; ComponentLink1URL: http://www.mouser.com/ds/2/396/mlcc_all_e-541559.pdf; ComponentLink1Description: http://www.mouser.com/ds/2/396/mlcc_all_e-541559.pdf; Supplier Part Number 1: 963-UMK107BJ105KA-T
footprint Capacitor-0603 (Chip Capacitor; Body 1.6 x 0.8 mm (LxW typ))
pins: 1, 2

## CAP CER 1UF 50V 0603
designator C?, comment 1uF
Multilayer Ceramic Capacitors MLCC - SMD/SMT 1uF 50Volts X5R +/-10% 0603 STD; Manufacturer: Taiyo Yuden; Manufacturer Part Number: UMK107BJ105KA-T; Tolerance: 10 %; Type: Industrial/Automotive and Safety; Voltage Rating DC: 50 VDC; Class: Class 2; Qualification: AEC-Q200; Supplier 1: Mouser; RoHS: RoHS Compliant; Category: Multilayer Ceramic Capacitors MLCC - SMD/SMT; Stock 1: 123303; Pricing 1: 1=0.512, 10=0.187, 100=0.101, 500=0.072, 1000=0.053, 4000=0.053, 8000=0.038, 12000=0.034, 24000=0.032 (AUD); Capacitance: 1 uF; Height: 0.8 mm; Length: 1.6 mm; Package / Case: 0603 (1608 metric); Packaging: Reel; Product: General Type MLCCs; Series: M; Termination Style: SMD/SMT; Width: 0.8 mm; Brand: Taiyo Yuden; Case Code - in: 0603; Case Code - mm: 1608; Dielectric: X5R; Maximum Operating Temperature: + 85 C; Minimum Operating Temperature: - 55 C; Termination: -; RoHS - Mouser: Y; Minimum Order Quantity: 1; Reeling: True; ComponentLink1URL: http://www.mouser.com/ds/2/396/mlcc_all_e-541559.pdf; ComponentLink1Description: http://www.mouser.com/ds/2/396/mlcc_all_e-541559.pdf; Supplier Part Number 1: 1uF
footprint Capacitor-0603 (Chip Capacitor; Body 1.6 x 0.8 mm (LxW typ))
footprint SMD-0402C
pins: 1, 2

## CAP CER 1UF 50V X5R 0805
designator C?, comment 1uF
CAP CER 1UF 50V X5R 0805; Manufacturer: Murata Electronics North America; Manufacturer Part Number: GRM219R61H105KA73D; Capacitance: 1µF; Tolerance: ±10%; Supplier 1: Digi-Key; RoHS: RoHS Compliant; Category: Capacitors; Stock 1: 28993; Pricing 1: 1=0.19, 10=0.13, 50=0.0748, 100=0.0618, 250=0.052, 500=0.04356, 1000=0.03575 (USD); Packaging: Cut Tape (CT); Part Status: Active; Voltage - Rated: 50V; Temperature Coefficient: X5R; Operating Temperature: -55°C ~ 85°C; Features: -; Ratings: -; Applications: General Purpose; Failure Rate: *; Mounting Type: Surface Mount, MLCC; Package / Case: 0805 (2012 Metric); Size / Dimension: 0.079" L x 0.049" W (2.00mm x 1.25mm); Height - Seated (Max): -; Thickness (Max): 0.037" (0.95mm); Lead Spacing: -; Lead Style: -; ComponentLink1URL: http://www.murata.com/~/media/webrenewal/support/library/catalog/products/capacitor/mlcc/c02e.pdf; ComponentLink1Description: http://www.murata.com/~/media/webrenewal/support/library/catalog/products/capacitor/mlcc/c02e.pdf; Supplier Part Number 1: 490-10743-1-ND
footprint CAP 0805 N (Chip Capacitor, 2-Leads, Body 2,00x1,25mm, IPC Medium Density)
footprint SMD-0402C
pins: 1, 2

## CAP CER 2.2nF
designator C?, comment 2.2nF
CAP CER 2200PF 10V X5R 0201 -> GRM033R61A222KA01D; Manufacturer: Murata Electronics North America; Tolerance: ±10%; Supplier 1: Digi-Key; Manufacturer Part Number: GRM033R61A222KA01D; RoHS: RoHS Compliant; Category: Capacitors; Stock 1: 63253; Pricing 1: 1=0.1, 50=0.004, 100=0.0033, 250=0.00272, 500=0.00232, 1000=0.0018, 5000=0.0015 (USD); Packaging: Cut Tape (CT); Part Status: Active; Capacitance: 2200pF; Voltage - Rated: 10V; Temperature Coefficient: X5R; Operating Temperature: -55°C ~ 85°C; Features: -; Ratings: -; Applications: General Purpose; Mounting Type: Surface Mount, MLCC; Package / Case: 0201 (0603 Metric); Size / Dimension: 0.024" L x 0.012" W (0.60mm x 0.30mm); Height - Seated (Max): -; Thickness (Max): 0.013" (0.33mm); Lead Spacing: -; Lead Style: -; ComponentLink1URL: http://www.murata.com/~/media/webrenewal/support/library/catalog/products/capacitor/mlcc/c02e.pdf; ComponentLink1Description: http://www.murata.com/~/media/webrenewal/support/library/catalog/products/capacitor/mlcc/c02e.pdf; Supplier Part Number 1: 490-3162-1-ND
footprint Capacitor-0603 (Chip Capacitor; Body 1.6 x 0.8 mm (LxW typ))
pins: 1, 2

## CAP CER 2.2UF 16V X5R 0603
designator C?, comment 2.2uF
CAP CER 2.2UF 16V X5R 0603; Manufacturer: Murata Electronics North America; Manufacturer Part Number: GRM188R61C225KE15D; Capacitance: 2.2µF; Tolerance: ±10%; Supplier 1: Digi-Key; RoHS: RoHS Compliant; Category: Capacitors; Stock 1: 411149; Pricing 1: 1=0.12, 10=0.08, 50=0.046, 100=0.038, 250=0.032, 500=0.0268, 1000=0.022 (USD); Packaging: Cut Tape (CT); Part Status: Active; Voltage - Rated: 16V; Temperature Coefficient: X5R; Operating Temperature: -55°C ~ 85°C; Features: -; Ratings: -; Applications: General Purpose; Failure Rate: *; Mounting Type: Surface Mount, MLCC; Package / Case: 0603 (1608 Metric); Size / Dimension: 0.063" L x 0.031" W (1.60mm x 0.80mm); Height - Seated (Max): -; Thickness (Max): 0.035" (0.90mm); Lead Spacing: -; Lead Style: -; ComponentLink1URL: http://www.murata.com/~/media/webrenewal/support/library/catalog/products/capacitor/mlcc/c02e.pdf; ComponentLink1Description: http://www.murata.com/~/media/webrenewal/support/library/catalog/products/capacitor/mlcc/c02e.pdf; Supplier Part Number 1: 490-3296-1-ND
footprint Capacitor-0603 (Chip Capacitor; Body 1.6 x 0.8 mm (LxW typ))
pins: 1, 2

## CAP CER 2.2UF 50V X5R 0805
designator C?, comment 2.2uF/50V
CAP CER 2.2UF 50V X5R 0805; Manufacturer: Murata Electronics North America; Manufacturer Part Number: GRM219R61H225KE15D; Capacitance: 2.2µF; Tolerance: ±10%; Supplier 1: Digi-Key; RoHS: RoHS Compliant; Category: Capacitors; Stock 1: 2800; Pricing 1: 1=0.2, 10=0.138, 50=0.0836, 100=0.0701, 250=0.0568, 500=0.0501, 1000=0.04259 (USD); Packaging: Cut Tape (CT); Voltage - Rated: 50V; Temperature Coefficient: X5R; Mounting Type: Surface Mount, MLCC; Operating Temperature: -55°C ~ 85°C; Applications: General Purpose; Ratings: -; Package / Case: 0805 (2012 Metric); Size / Dimension: 0.079" L x 0.049" W (2.00mm x 1.25mm); Height - Seated (Max): -; Thickness (Max): 0.037" (0.95mm); Lead Spacing: -; Features: -; Lead Style: -; ComponentLink1URL: http://www.murata.com/~/media/webrenewal/support/library/catalog/products/capacitor/mlcc/c02e.pdf; ComponentLink1Description: http://www.murata.com/~/media/webrenewal/support/library/catalog/products/capacitor/mlcc/c02e.pdf; Supplier Part Number 1: 490-10744-1-ND
footprint CAP 0805 N (Chip, Body 2.0x1.3mm, IPC Medium Density)
pins: 1, 2

## CAP CER 2.2UF 50V X7R 1206
designator C?, comment 2.2uF
CAP CER 2.2UF 50V X7R 1206; Manufacturer: Murata Electronics North America; Manufacturer Part Number: GRM31CR71H225KA88L; Capacitance: 2.2µF; Tolerance: ±10%; Supplier 1: Digi-Key; RoHS: RoHS Compliant; Category: Capacitors; Stock 1: 503198; Pricing 1: 1=0.26, 10=0.214, 50=0.1202, 100=0.1068, 250=0.08012, 500=0.07076, 1000=0.06275 (USD); Packaging: Cut Tape (CT); Part Status: Active; Voltage - Rated: 50V; Temperature Coefficient: X7R; Operating Temperature: -55°C ~ 125°C; Features: -; Ratings: -; Applications: General Purpose; Failure Rate: *; Mounting Type: Surface Mount, MLCC; Package / Case: 1206 (3216 Metric); Size / Dimension: 0.126" L x 0.063" W (3.20mm x 1.60mm); Height - Seated (Max): -; Thickness (Max): 0.071" (1.80mm); Lead Spacing: -; Lead Style: -; ComponentLink1URL: http://www.murata.com/~/media/webrenewal/support/library/catalog/products/capacitor/mlcc/c02e.pdf; ComponentLink1Description: http://www.murata.com/~/media/webrenewal/support/library/catalog/products/capacitor/mlcc/c02e.pdf; Supplier Part Number 1: 490-3367-1-ND
footprint CAP 1206 N (Chip Capacitor, 2-Leads, Body 3,20x1,60mm, IPC Medium Density)
pins: 1, 2

## CAP CER 2.2UF 100V X7R 1206
designator C?, comment 2.2uF
CAP CER 2.2UF 100V X7R 1206; Manufacturer: Murata Electronics North America; Manufacturer Part Number: GRM31CR72A225KA73L; Capacitance: 2.2µF; Tolerance: ±10%; Supplier 1: Digi-Key; RoHS: RoHS Compliant; Category: Capacitors; Stock 1: 1; Pricing 1: 1=0.56, 10=0.536, 50=0.32, 100=0.26, 250=0.216, 500=0.196, 1000=0.18 (USD); Packaging: Cut Tape (CT); Part Status: Active; Voltage - Rated: 100V; Temperature Coefficient: X7R; Operating Temperature: -55°C ~ 125°C; Features: -; Ratings: -; Applications: General Purpose; Failure Rate: *; Mounting Type: Surface Mount, MLCC; Package / Case: 1206 (3216 Metric); Size / Dimension: 0.126" L x 0.063" W (3.20mm x 1.60mm); Height - Seated (Max): -; Thickness (Max): 0.063" (1.60mm); Lead Spacing: -; Lead Style: -; ComponentLink1URL: http://www.murata.com/~/media/webrenewal/support/library/catalog/products/capacitor/mlcc/c02e.pdf; ComponentLink1Description: http://www.murata.com/~/media/webrenewal/support/library/catalog/products/capacitor/mlcc/c02e.pdf; Supplier Part Number 1: 490-7209-1-ND
footprint CAP 1206 N (Chip Capacitor, 2-Leads, Body 3,20x1,60mm, IPC Medium Density)
pins: 1, 2

## CAP CER 4.7uF 6.3VDC
designator C?
CAP CER 4.7uF 0603; Manufacturer_Name: TAIYO YUDEN; Manufacturer_Part_Number: JMK107BJ475MA-T; Mouser Part Number: 963-JMK107BJ475MA-T; Mouser Price/Stock: https://www.mouser.com/Search/Refine.aspx?Keyword=963-JMK107BJ475MA-T; RS Part Number: 1721468P; RS Price/Stock: http://uk.rs-online.com/web/p/products/1721468P
footprint CAP CER 0603
pins: 1, 2

## CAP CER 4.7UF 16V X5R 0402 20%
designator C?, comment 4.7uF
CAP CER 4.7UF 16V X5R 0402 20%; Manufacturer: Kyocera AVX; Manufacturer Part Number: 0402YD475MAT2A; Supplier 1: Mouser; Stock 1: 5996; Pricing 1: 1=0.13, 10=0.13, 50=0.117, 100=0.108, 1000=0.08, 10000=0.06 (USD); Category: Capacitors; Family: Ceramic Capacitors; Series: *; Part Status: Active; ComponentLink1URL: http://datasheets.avx.com/cx5r.pdf; ComponentLink1Description: http://datasheets.avx.com/cx5r.pdf; Supplier Part Number 1: 581-0402YD475MAT2A; Value: 4.7uF
footprint SMD-0402C
pins: 1, 2

## CAP CER 10UF 6.3VV 0603
designator C?, comment 10uF/6.3V  Supplier Part Number 1: 10uF
WALSIN - 0603X106M6R3CT - CAPACITOR, MLCC, X5R, 10UF, 6.3V, 0603; Capacitance: 10; Capacitance Tolerance: ± 20%; Dielectric Characteristic: X5; Voltage Rating: 6.3; Ceramic Capacitor Case: 0603 [1608 Metric]; Supplier 1: Farnell; Manufacturer: WALSIN; Manufacturer Part Number: 0603X106M6R3CT; RoHS: YES; Stock 1: 171464; Pricing 1: 1=0,239, 150=0,0875, 400=0,0525, 1000=0,0438, 2000=0,035 (GBP); Product Range: -; Operating Temperature Min: -55; Operating Temperature Max: 85; Packaging: Cut Tape; MSL: MSL 1 - Unlimited<!--FANDB--><div class="features-and-benefits-container"><div class="features-and-benefits-description"><span class="features-benefits-value">The general purpose series capacitors from Walsin are X5R dielectric multilayer ceramic chip capacitors (MLCC) that provides high electrical precision, stability and reliability. These MLCC capacitors consist of a conducting material and electrodes. The high density and high efficiency ceramic condensers are used to manufacture chip type miniaturized MLCC capacitors.</span></div><div class="features-and-benefits-list"><ul class="features-and-benefits-list-list"><li class="features-and-benefits-list-item">Capacitance values ranges from 100pF to 220?F</li><li class="features-and-benefits-list-item">EIA 0201, 0402, 0603, 0805, 1206, 1210 case sizes available</li><li class="features-and-benefits-list-item">Available voltage ratings are 4V, 6.3V, 10V, 16V, 25V, 50V</li><li class="features-and-benefits-list-item">Operating temperature range from -55°C to 85°C</li><li class="features-and-benefits-list-item">Available in ±10%, ±20; ComponentLink1URL: http://www.farnell.com/datasheets/1958513.pdf; ComponentLink1Description: http://www.farnell.com/datasheets/1958513.pdf
footprint Capacitor-0603 (Chip Capacitor; Body 1.6 x 0.8 mm (LxW typ))
footprint SMD-0402C
pins: 1, 2

## CAP CER 10UF 10V X7R 0805
designator C?, comment 10uF
CAP CER 10UF 10V X7R 0805; Manufacturer: Murata Electronics North America; Manufacturer Part Number: GRM21BR71A106KA73L; Capacitance: 10µF; Tolerance: ±10%; Supplier 1: Digi-Key; RoHS: RoHS Compliant; Category: Capacitors; Stock 1: 24935; Pricing 1: 1=0.19, 10=0.127, 25=0.0924, 50=0.077, 100=0.0647, 250=0.05236, 500=0.0462, 1000=0.03927 (USD); Packaging: Digi-Reel®; Part Status: Active; Voltage - Rated: 10V; Temperature Coefficient: X7R; Operating Temperature: -55°C ~ 125°C; Features: Derating Recommended; Ratings: -; Applications: General Purpose; Failure Rate: *; Mounting Type: Surface Mount, MLCC; Package / Case: 0805 (2012 Metric); Size / Dimension: 0.079" L x 0.049" W (2.00mm x 1.25mm); Height - Seated (Max): -; Thickness (Max): 0.055" (1.40mm); Lead Spacing: -; Lead Style: -; ComponentLink1URL: http://www.murata.com/~/media/webrenewal/support/library/catalog/products/capacitor/mlcc/c02e.pdf; ComponentLink1Description: http://www.murata.com/~/media/webrenewal/support/library/catalog/products/capacitor/mlcc/c02e.pdf; Supplier Part Number 1: 490-10516-6-ND
footprint CAPACITOR-0805 (Chip, Body 2.0x1.3mm, IPC Medium Density)
footprint SMD-0402C
pins: 1, 2

## CAP CER 10UF 16V X5R 0805
designator C?, comment 10uF/16V
CAP CER 10UF 16V X5R 0805; Manufacturer: AVX Corporation; Manufacturer Part Number: 0805YD106KAT2A; Capacitance: 10µF; Tolerance: ±10%; Supplier 1: Digi-Key; RoHS: RoHS Compliant; Category: Capacitors; Stock 1: 198871; Pricing 1: 1=0.18, 10=0.124, 25=0.0908, 50=0.0742, 100=0.0627, 250=0.05116, 500=0.0429, 1000=0.03795 (USD); Packaging: Cut Tape (CT); Part Status: Active; Voltage - Rated: 16V; Temperature Coefficient: X5R; Mounting Type: Surface Mount, MLCC; Operating Temperature: -55°C ~ 85°C; Applications: General Purpose; Ratings: -; Package / Case: 0805 (2012 Metric); Size / Dimension: 0.079" L x 0.049" W (2.01mm x 1.25mm); Height - Seated (Max): -; Thickness (Max): 0.055" (1.40mm); Lead Spacing: -; Features: -; Lead Style: -; ComponentLink1URL: http://datasheets.avx.com/cx5r.pdf; ComponentLink1Description: http://datasheets.avx.com/cx5r.pdf; Supplier Part Number 1: 478-5165-1-ND
footprint CAPACITOR-0805 (Chip, Body 2.0x1.3mm, IPC Medium Density)
footprint SMD-0402C
pins: 1, 2

## CAP CER 10UF 25V X5R 0603
designator C?, comment 10uF
ZRB18AR61E106ME01L; Manufacturer: Murata Electronics North America; Capacitance: 10µF; Tolerance: ±20%; Voltage - Rated: 25V; Temperature Coefficient: X5R; Supplier 1: Digi-Key; Manufacturer Part Number: ZRB18AR61E106ME01L; RoHS: RoHS Compliant; Category: Capacitors; Stock 1: 707; Pricing 1: 1=0.41, 10=0.356, 50=0.216, 100=0.1778, 250=0.14224, 500=0.12954, 1000=0.11684 (USD); Packaging: Digi-Reel®; Part Status: Active; Operating Temperature: -55°C ~ 85°C; Features: Interposer Termination; Ratings: -; Applications: Acoustic Noise Reduction; Failure Rate: *; Mounting Type: Surface Mount, MLCC; Package / Case: 0603 (1608 Metric); Size / Dimension: 0.063" L x 0.031" W (1.60mm x 0.80mm); Height - Seated (Max): -; Thickness (Max): 0.047" (1.20mm); Lead Spacing: -; Lead Style: -; ComponentLink1URL: http://search.murata.co.jp/Ceramy/image/img/A01X/G101/ENG/ZRB18AR61E106ME01-01.pdf; ComponentLink1Description: http://search.murata.co.jp/Ceramy/image/img/A01X/G101/ENG/ZRB18AR61E106ME01-01.pdf; Supplier Part Number 1: 490-10991-6-ND
footprint Capacitor-0603 (Chip Capacitor; Body 1.6 x 0.8 mm (LxW typ))
footprint SMD-0402C
pins: 1, 2

## CAP CER 10UF 50V 1206
designator C?, comment 10uF  Capacitance: 10 uF
Multilayer Ceramic Capacitors MLCC - SMD/SMT 1206 10uF 50volts X5R 20%; Manufacturer: Murata Electronics; Manufacturer Part Number: GRM31CR61H106MA12L; Type: General Purpose Ceramic Capacitors; Voltage Rating DC: 50 VDC; Class: Class 2; Supplier 1: Mouser; RoHS: RoHS Compliant; Category: Multilayer Ceramic Capacitors MLCC - SMD/SMT; Stock 1: 25733; Pricing 1: 1=0.340, 10=0.186, 100=0.122, 500=0.111, 1000=0.101, 2000=0.070, 10000=0.068, 24000=0.066, 50000=0.059 (USD); Height: 1.6 mm; Length: 3.2 mm; Package / Case: 1206 (3216 metric); Packaging: Reel; Product: General Type MLCCs; Series: GRM; Termination Style: SMD/SMT; Tolerance: 20 %; Width: 1.6 mm; Brand: Murata Electronics; Case Code - in: 1206; Case Code - mm: 3216; Dielectric: X5R; Maximum Operating Temperature: + 85 C; Minimum Operating Temperature: - 55 C; Standard Pack Qty: 2000; RoHS - Mouser: Y; Minimum Order Quantity: 1; Reeling: True
footprint CAPACITOR-1206 (Chip Capacitor, Body 3.2x1.6mm, 1.0mm H, EIA 1206, IPC Medium Density)
footprint SMD-0402C
pins: 1, 2

## CAP CER 12PF 50V NP0 0603
designator C?, comment 12pF
CAP CER 12PF 50V NP0 0603; Manufacturer: Vishay Vitramon; Manufacturer Part Number: VJ0603A120JXACW1BC; Tolerance: ±5%; Temperature Coefficient: C0G, NP0; Supplier 1: Digi-Key; RoHS: RoHS Compliant; Category: Capacitors; Stock 1: 0; Pricing 1: 1=0 (USD); Packaging: Cut Tape (CT); Capacitance: 12pF; Voltage - Rated: 50V; Mounting Type: Surface Mount, MLCC; Operating Temperature: -55°C ~ 125°C; Applications: General Purpose; Ratings: -; Package / Case: 0603 (1608 Metric); Size / Dimension: 0.063" L x 0.031" W (1.60mm x 0.80mm); Height - Seated (Max): -; Thickness (Max): 0.035" (0.90mm); Lead Spacing: -; Features: -; Lead Style: -; ComponentLink1URL: http://www.vishay.com/docs/28548/vjw1bcbascomseries.pdf; ComponentLink1Description: http://www.vishay.com/docs/28548/vjw1bcbascomseries.pdf; Supplier Part Number 1: BC1226CT-ND
footprint CAP 0603 N (Chip, Body 1.6x0.8mm, IPC Medium Density)
pins: 1, 2

## CAP CER 22PF 50V NP0 0603
designator C?, comment 22pF
Multilayer Ceramic Capacitors MLCC - SMD/SMT 22pF 50Volts X5R +/-10% 0603 STD; Manufacturer: Murata Electronics North America; Manufacturer Part Number: GRM1885C1H220JA01D; Tolerance: ±5%; Voltage - Rated: 50V; Temperature Coefficient: C0G, NP0; Supplier 1: Digi-Key; RoHS: RoHS Compliant; Category: Capacitors; Stock 1: 307423; Pricing 1: 1=0.1, 10=0.041, 50=0.0222, 100=0.0188, 250=0.0154, 500=0.01316, 1000=0.01026 (USD); Packaging: Digi-Reel®; Capacitance: 22pF; Mounting Type: Surface Mount, MLCC; Operating Temperature: -55°C ~ 125°C; Applications: General Purpose; Ratings: -; Package / Case: 0603 (1608 Metric); Size / Dimension: 0.063" L x 0.031" W (1.60mm x 0.80mm); Height - Seated (Max): -; Thickness (Max): 0.035" (0.90mm); Lead Spacing: -; Features: -; Lead Style: -; ComponentLink1URL: http://www.murata.com/~/media/webrenewal/support/library/catalog/products/capacitor/mlcc/c02e.pdf; ComponentLink1Description: http://www.murata.com/~/media/webrenewal/support/library/catalog/products/capacitor/mlcc/c02e.pdf; Supplier Part Number 1: 22pF
footprint Capacitor-0603 (Chip Capacitor; Body 1.6 x 0.8 mm (LxW typ))
pins: 1, 2

## CAP CER 33nF/16V
designator C?, comment 33nF
CAP CER 0.033UF 16V X7R 0603; Manufacturer: Wurth Electronics Inc; Manufacturer Part Number: 885012206043; Capacitance: 0.033µF; Tolerance: ±10%; Supplier 1: Digi-Key; RoHS: RoHS Compliant; Category: Capacitors; Stock 1: 3700; Pricing 1: 1=0.1, 50=0.0468, 100=0.0367, 250=0.0324, 500=0.02952, 1000=0.02736 (USD); Packaging: Cut Tape (CT); Part Status: Active; Voltage - Rated: 16V; Temperature Coefficient: X7R; Operating Temperature: -55°C ~ 125°C; Features: -; Ratings: -; Applications: General Purpose; Mounting Type: Surface Mount, MLCC; Package / Case: 0603 (1608 Metric); Size / Dimension: 0.063" L x 0.031" W (1.60mm x 0.80mm); Height - Seated (Max): -; Thickness (Max): 0.034" (0.87mm); Lead Spacing: -; Lead Style: -; ComponentLink1URL: http://katalog.we-online.de/pbs/datasheet/885012206043.pdf; ComponentLink1Description: http://katalog.we-online.de/pbs/datasheet/885012206043.pdf; Supplier Part Number 1: 732-7962-1-ND
footprint Capacitor-0603 (Chip Capacitor; Body 1.6 x 0.8 mm (LxW typ))
pins: 1, 2

## CAP CER 33UF X5R 1206
designator *
CAP CER 33UF 25V X5R 1206; Manufacturer: TDK; Manufacturer Part Number: C3216X5R1E336M160AC; PCN Part Number: MLCC Part Number Change 30/Nov/2012; Product Training Modules: C Series General Applications SEAT, CCV, and TVCL Design Tools Guide to Replacing an Electrolytic Capacitor with an MLCC; Capacitance: 33µF; Tolerance: ±20%; Online Catalog: C Series, General Purpose; Other Names: 445-8046-6; Supplier 1: Arrow; Stock 1: 0; RoHS Information: RoHS Certificate-MLCC; Standard Package: 1; Category: Capacitors; Family: Ceramic Capacitors; Series: C; Packaging: Digi-Reel®; Voltage - Rated: 25V; Temperature Coefficient: X5R; Mounting Type: Surface Mount, MLCC; Operating Temperature: -55°C ~ 85°C; Applications: General Purpose; Ratings: -; Package / Case: 1206 (3216 Metric); Size / Dimension: 0.126" L x 0.063" W (3.20mm x 1.60mm); Height - Seated (Max): -; Thickness (Max): -; Lead Spacing: -; Features: -; Lead Style: -; ComponentLink1URL: http://www.mouser.com/ds/2/400/lcc_commercial_general_en-837201.pdf; ComponentLink1Description: http://www.mouser.com/ds/2/400/lcc_commercial_general_en-837201.pdf; ComponentLink2URL: https://product.tdk.com/info/en/documents/chara_sheet/C3216X5R1E336M160AC.pdf; ComponentLink2Description: https://product.tdk.com/info/en/documents/chara_sheet/C3216X5R1E336M160AC.pdf; Supplier Part Number 1: C3216X5R1E336M160AC
footprint CAPACITOR-1206 (Chip Capacitor, Body 3.2x1.6mm, 1.0mm H, EIA 1206, IPC Medium Density)
pins: 1, 2